# EAGLE library part 74LVC4245A (library IC)
Logic Translater Bidirectional
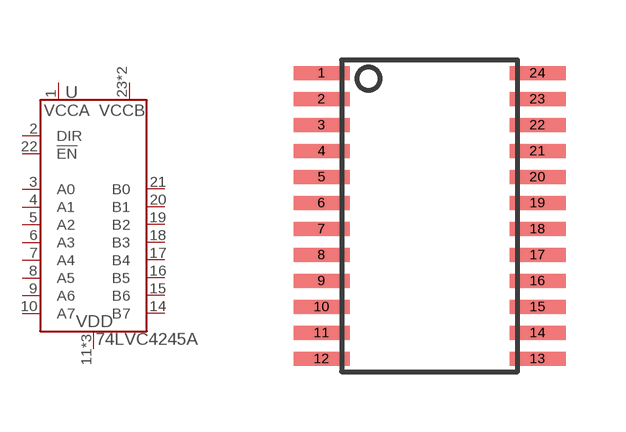
[diagram p9: symbol with the pads of TSSOP-24; footprint TSSOP-24]

Designator prefix U

## 74LVC4245ATSSOP (MPN: 74LVC4245APW,118)  [TSSOP-24]
1  VCCA
2  DIR
3  A0
4  A1
5  A2
6  A3
7  A4
8  A5
9  A6
10  A7
11  GND
12  GND
13  GND
14  B7
15  B6
16  B5
17  B4
18  B3
19  B2
20  B1
21  B0
22  !EN
23  VCCB
24  VCCB

## Footprint TSSOP-24 (pad centres in mm)
smd 1.4 x 0.35: 1 -2.7,3.575; 2 -2.7,2.925; 3 -2.7,2.275; 4 -2.7,1.625; 5 -2.7,0.975; 6 -2.7,0.325; 7 -2.7,-0.325; 8 -2.7,-0.975; 9 -2.7,-1.625; 10 -2.7,-2.275; 11 -2.7,-2.925; 12 -2.7,-3.575; 13 2.7,-3.575; 14 2.7,-2.925; 15 2.7,-2.275; 16 2.7,-1.625; 17 2.7,-0.975; 18 2.7,-0.325; 19 2.7,0.325; 20 2.7,0.975; 21 2.7,1.625; 22 2.7,2.275; 23 2.7,2.925; 24 2.7,3.575